# Altium footprint library Integrated circuits.PcbLib: 27 footprints (part 1 of 2)
Each footprint in its own frame and in the unit in brackets; x right, y up, seen from the top. Pads: shape width x height; smd on the part's side, far side on the other; paste and mask are expansions set on the pad; w line width, h text height; cw(c..) or ccw(c..) is an arc to the next point about the centre after c.
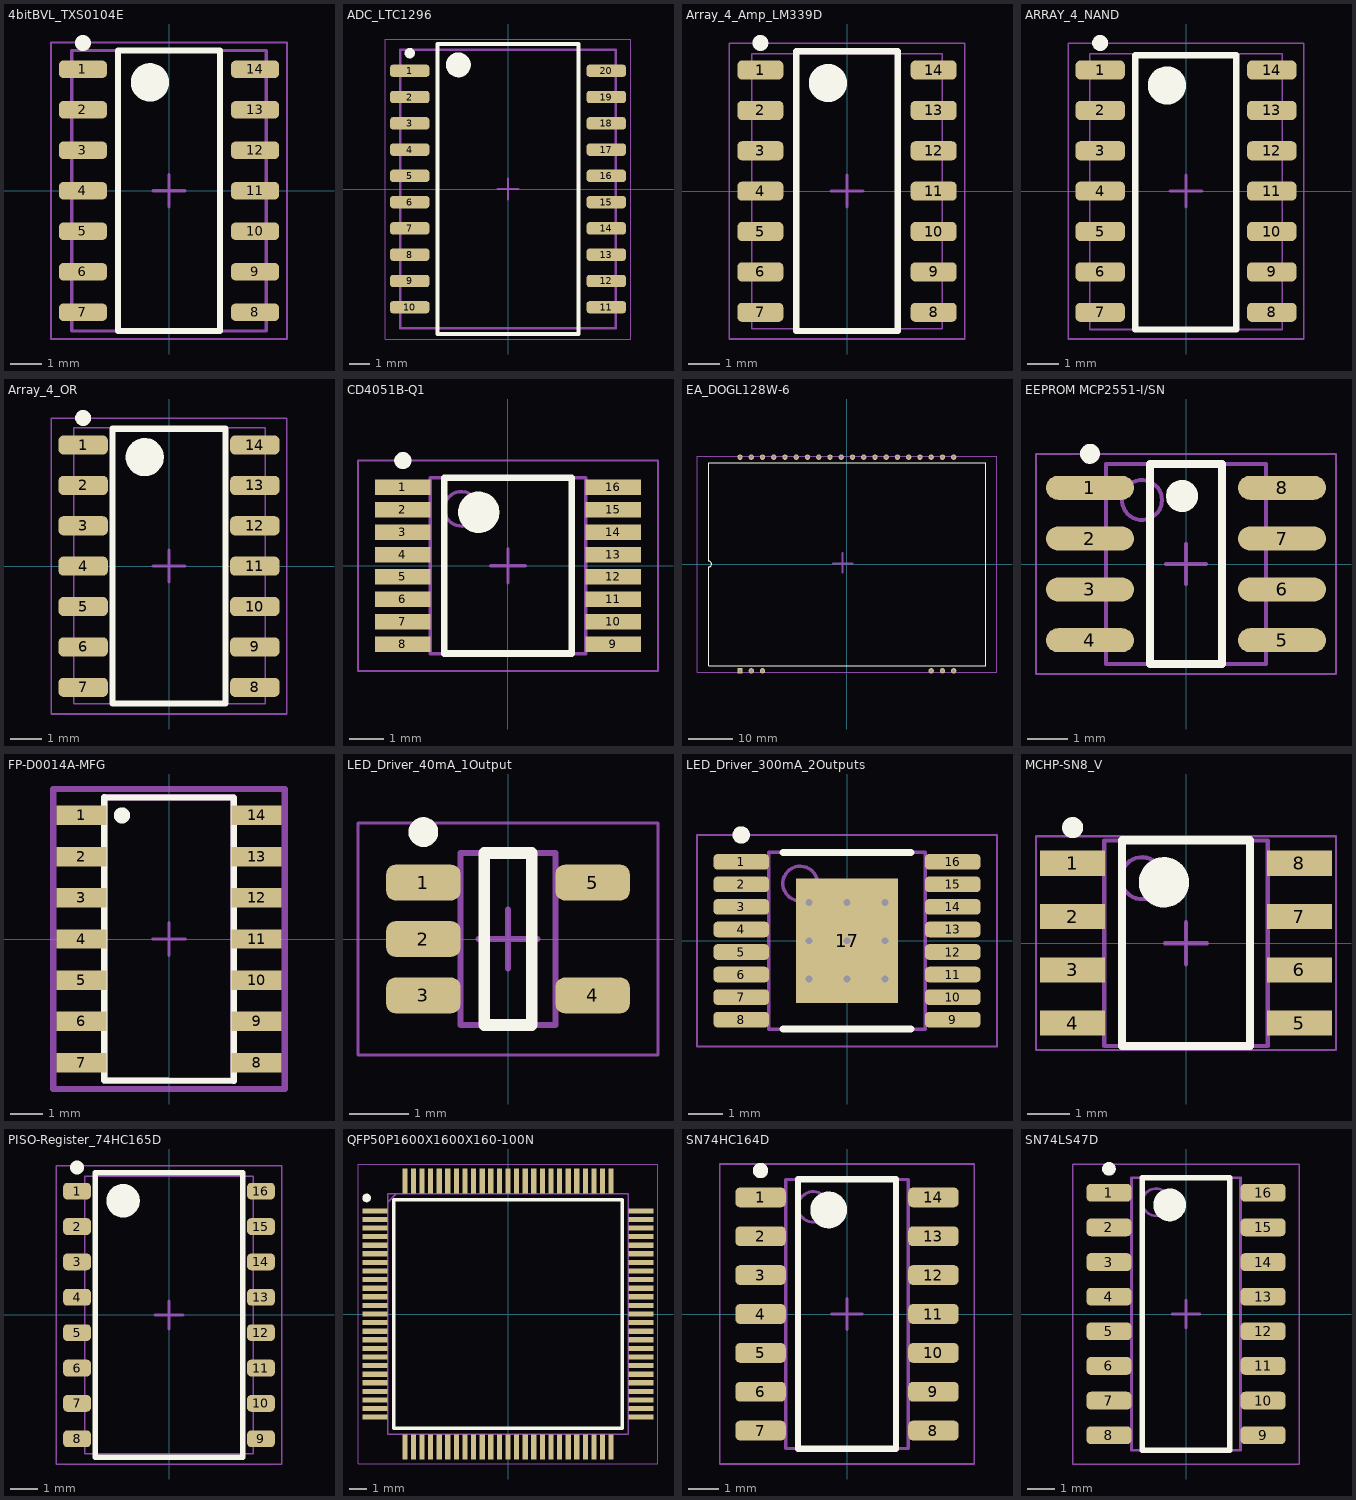
[diagram p0: the footprints below, top view; thin cyan lines are the x and y axes]

## 4bitBVL_TXS0104E [mm] "SOP, 14-Leads, Body 8,65x3,90mm, Pitch 1,27mm, IPC Medium Density"
height 1.75
pads (14):
  rrect50% 1.5x0.55 smd: 1(-2.7,3.81) 2(-2.7,2.54) 3(-2.7,1.27) 4(-2.7,0) 5(-2.7,-1.27) 6(-2.7,-2.54) 7(-2.7,-3.81) 8(2.7,-3.81) 9(2.7,-2.54) 10(2.7,-1.27) 11(2.7,0) 12(2.7,1.27) 13(2.7,2.54) 14(2.7,3.81)
Top Overlay:
  circle w0.25: c-2.7,4.635 r0.125
  circle w0.6: c-0.6,3.4 r0.3
  lines w0.2: -1.6,-4.4 -1.6,4.4 1.6,4.4 1.6,-4.4 -1.6,-4.4
Top Component Outline:
  lines w0.05: -3.7,-4.65 -3.7,4.65 3.7,4.65 3.7,-4.65 -3.7,-4.65
  lines w0.1: -0.5,0 0.5,0 ; 0,-0.5 0,0.5 ; -3.048,-4.4 -3.048,4.4 3.048,4.4 3.048,-4.4 -3.048,-4.4
  text "'.Designator'" at -2.975,-1.767 h0.7
3D body "TXS0104ED.stp": height 1.75, standoff 0, extent -3.013,-4.325 3.013,4.325

## ADC_LTC1296 [mm] "SOIC, 20-Leads, Body 13,30x7,49mm, Pitch 1,27mm, IPC Medium Density"
height 2.65
pads (20):
  rrect50% 1.9x0.6 smd: 1(-4.75,5.715) 2(-4.75,4.445) 3(-4.75,3.175) 4(-4.75,1.905) 5(-4.75,0.635) 6(-4.75,-0.635) 7(-4.75,-1.905) 8(-4.75,-3.175) 9(-4.75,-4.445) 10(-4.75,-5.715) 11(4.75,-5.715) 12(4.75,-4.445) 13(4.75,-3.175) 14(4.75,-1.905) 15(4.75,-0.635) 16(4.75,0.635) 17(4.75,1.905) 18(4.75,3.175) 19(4.75,4.445) 20(4.75,5.715)
Top Overlay:
  circle w0.25: c-4.75,6.565 r0.125
  circle w0.6: c-2.4,6 r0.3
  lines w0.2: -3.4,-7 -3.4,7 3.4,7 3.4,-7 -3.4,-7
Top Component Outline:
  lines w0.05: -5.925,-7.25 -5.925,7.25 5.925,7.25 5.925,-7.25 -5.925,-7.25
  lines w0.1: -0.5,0 0.5,0 ; 0,-0.5 0,0.5 ; -5.207,-6.731 -5.207,6.731 5.207,6.731 5.207,-6.731 -5.207,-6.731
  text "'.Designator'" at -2.794,0.127 h1.52
3D body "LTC1296CCSW#PBF.stp": height 2.65, standoff 0.01, extent -5.163,-6.648 5.163,6.648

## Array_4_Amp_LM339D [mm] "SOIC, 14-Leads, Body 8,65x3,90mm, Pitch 1,27mm, IPC Medium Density"
height 1.75
pads (14):
  rrect50% 1.45x0.6 smd: 1(-2.725,3.81) 2(-2.725,2.54) 3(-2.725,1.27) 4(-2.725,0) 5(-2.725,-1.27) 6(-2.725,-2.54) 7(-2.725,-3.81) 8(2.725,-3.81) 9(2.725,-2.54) 10(2.725,-1.27) 11(2.725,0) 12(2.725,1.27) 13(2.725,2.54) 14(2.725,3.81)
Top Overlay:
  circle w0.25: c-2.725,4.66 r0.125
  circle w0.6: c-0.6,3.4 r0.3
  lines w0.2: -1.6,-4.4 -1.6,4.4 1.6,4.4 1.6,-4.4 -1.6,-4.4
Top Component Outline:
  lines w0.05: -3.7,-4.65 3.7,-4.65 3.7,4.65 -3.7,4.65 -3.7,-4.65 ; -3,-4.325 3,-4.325 3,4.325 -3,4.325 -3,-4.325
  lines w0.1: -0.5,0 0.5,0 ; 0,-0.5 0,0.5
  text "'.Designator'" at -3.8,-1.917 h0.7
3D body "LM339D.stp": height 1.75, standoff 0, extent -3,-4.325 3,4.325

## ARRAY_4_NAND [mm] "SOIC, 14-Leads, Body 8,65x3,90mm, Pitch 1,27mm, IPC Medium Density"
height 1.75
pads (14):
  rrect50% 1.55x0.6 smd: 1(-2.7,3.81) 2(-2.7,2.54) 3(-2.7,1.27) 4(-2.7,0) 5(-2.7,-1.27) 6(-2.7,-2.54) 7(-2.7,-3.81) 8(2.7,-3.81) 9(2.7,-2.54) 10(2.7,-1.27) 11(2.7,0) 12(2.7,1.27) 13(2.7,2.54) 14(2.7,3.81)
Top Overlay:
  circle w0.25: c-2.7,4.66 r0.125
  circle w0.6: c-0.6,3.325 r0.3
  lines w0.2: -1.6,-4.35 -1.6,4.275 1.575,4.275 1.575,-4.35 -1.6,-4.35
Top Component Outline:
  lines w0.05: -3.7,-4.65 -3.7,4.65 3.7,4.65 3.7,-4.65 -3.7,-4.65 ; -3.025,-4.35 -3.025,4.325 3.025,4.325 3.025,-4.35 -3.025,-4.35
  lines w0.1: -0.5,0 0.5,0 ; 0,-0.5 0,0.5
  text "'.Designator'" at -3.475,-1.842 h0.7
3D body "CD4011UBM.stp": height 1.75, standoff 0, extent -3.013,-4.325 3.013,4.325

## Array_4_OR [mm] "SOIC, 14-Leads, Body 8,65x3,90mm, Pitch 1,27mm, IPC Medium Density"
height 1.75
pads (14):
  rrect50% 1.55x0.6 smd: 1(-2.7,3.81) 2(-2.7,2.54) 3(-2.7,1.27) 4(-2.7,0) 5(-2.7,-1.27) 6(-2.7,-2.54) 7(-2.7,-3.81) 8(2.7,-3.81) 9(2.7,-2.54) 10(2.7,-1.27) 11(2.7,0) 12(2.7,1.27) 13(2.7,2.54) 14(2.7,3.81)
Top Overlay:
  circle w0.25: c-2.7,4.66 r0.125
  circle w0.6: c-0.762,3.429 r0.3
  lines w0.2: -1.778,-4.318 -1.778,4.318 1.778,4.318 1.778,-4.318 -1.778,-4.318
Top Component Outline:
  lines w0.05: -3.7,-4.65 -3.7,4.65 3.7,4.65 3.7,-4.65 -3.7,-4.65 ; -3,-4.325 3.025,-4.325 3.025,4.35 -3,4.35 -3,-4.325
  lines w0.1: -0.5,0 0.5,0 ; 0,-0.5 0,0.5
  text "'.Designator'" at -2.9,-1.717 h0.7
3D body "CD4071BM.stp": height 1.76, standoff 0.01, extent -3.013,-4.325 3.013,4.325

## CD4051B-Q1 [mm]
height 1.2
pads (16):
  rect 1.6x0.45 smd: 1(-3.05,2.275) 2(-3.05,1.625) 3(-3.05,0.975) 4(-3.05,0.325) 5(-3.05,-0.325) 6(-3.05,-0.975) 7(-3.05,-1.625) 8(-3.05,-2.275) 9(3.05,-2.275) 10(3.05,-1.625) 11(3.05,-0.975) 12(3.05,-0.325) 13(3.05,0.325) 14(3.05,0.975) 15(3.05,1.625) 16(3.05,2.275)
Top Overlay:
  circle w0.25: c-3.05,3.05 r0.125
  circle w0.6: c-0.85,1.55 r0.3
  lines w0.2: -1.85,-2.55 -1.85,2.55 1.85,2.55 1.85,-2.55 -1.85,-2.55
Top 3D Body:
  circle w0.1: c-1.35,1.65 r0.5
  lines w0.1: -2.25,-2.55 -2.25,2.55 2.25,2.55 2.25,-2.55 -2.25,-2.55
Mechanical 15:
  lines w0.05: -4.35,-3.05 -4.35,3.05 4.35,3.05 4.35,-3.05 -4.35,-3.05
  lines w0.1: -0.5,0 0.5,0 ; 0,-0.5 0,0.5
3D body "SOP127P600-8N.step": height 1.2, standoff 0, extent -3.2,-2.55 3.2,2.55

## EA_DOGL128W-6 [mm]
pads (26):
  rect 1.2x1.2 hole 0.7: 1(-24.13,-24.13)
  round 1.2 hole 0.7: 2(-21.59,-24.13) 3(-19.05,-24.13) 18(19.05,-24.13) 19(21.59,-24.13) 20(24.13,-24.13) 21(24.13,24.13) 22(21.59,24.13) 23(19.05,24.13) 24(16.51,24.13) 25(13.97,24.13) 26(11.43,24.13) 27(8.89,24.13) 28(6.35,24.13) 29(3.81,24.13) 30(1.27,24.13) 31(-1.27,24.13) 32(-3.81,24.13) 33(-6.35,24.13) 34(-8.89,24.13) 35(-11.43,24.13) 36(-13.97,24.13) 37(-16.51,24.13) 38(-19.05,24.13) 39(-21.59,24.13) 40(-24.13,24.13)
Top Overlay:
  lines w0.2: -31.2,-23 -31.2,-0.66 ccw(c-31.2,-0.025) -31.2,0.61 -31.2,22.925 31.4,22.925 31.4,-23 -31.2,-23
Top Component Outline:
  lines w0.05: -33.855,-24.405 33.92,-24.405 33.92,24.395 -33.855,24.395 -33.855,-24.405
  lines w0.5: -3.06,0.112 1.265,0.112 ; -0.955,-1.905 -0.955,2.42
  text "'.Designator'" at -4.355,-14.197 h0.7
3D body "EA_DOGL128W-6.stp": height 2.9, standoff -5, extent -33.9,-24.419 33.9,24.419

## EEPROM MCP2551-I/SN [mm] "SOIC, 8-Leads, Body 4.9x3.9mm, Pitch 1.27mm, IPC Medium Density"
height 1.75
pads (8):
  oval 2.2x0.6 smd: 1(-2.4,1.905) 2(-2.4,0.635) 3(-2.4,-0.635) 4(-2.4,-1.905) 5(2.4,-1.905) 6(2.4,-0.635) 7(2.4,0.635) 8(2.4,1.905)
Top Overlay:
  circle w0.25: c-2.4,2.755 r0.125
  circle w0.4: c-0.1,1.7 r0.2
  lines w0.2: -0.9,-2.5 -0.9,2.5 0.9,2.5 0.9,-2.5 -0.9,-2.5
Top 3D Body:
  circle w0.1: c-1.1,1.6 r0.5
  lines w0.1: -2,-2.5 -2,2.5 2,2.5 2,-2.5 -2,-2.5
Mechanical 15:
  lines w0.05: -3.75,-2.75 -3.75,2.75 3.75,2.75 3.75,-2.75 -3.75,-2.75
  lines w0.1: -0.5,0 0.5,0 ; 0,-0.5 0,0.5
3D body: height 1.75, standoff 0.1, extent -2,-2.5 2,2.5

## FP-D0014A-MFG [mm]
pads (14):
  rect 1.55x0.6 smd paste-1000 mask+0: 1(-2.7,3.81) 2(-2.7,2.54) 3(-2.7,1.27) 4(-2.7,0) 5(-2.7,-1.27) 6(-2.7,-2.54) 7(-2.7,-3.81) 8(2.7,-3.81) 9(2.7,-2.54) 10(2.7,-1.27) 11(2.7,0) 12(2.7,1.27) 13(2.7,2.54) 14(2.7,3.81)
Top Overlay:
  circle w0.25: c-1.45,3.81 r0.125
  lines w0.2: -2,-4.35 -2,4.375 2,4.35 2,-4.378 -2,-4.35
Top Paste:
  rectangle: -3.45,3.535 -1.95,4.085
  rectangle: -3.45,2.265 -1.95,2.815
  rectangle: -3.45,0.995 -1.95,1.545
  rectangle: -3.45,-0.275 -1.95,0.275
  rectangle: -3.45,-1.545 -1.95,-0.995
  rectangle: -3.45,-2.815 -1.95,-2.265
  rectangle: -3.45,-4.085 -1.95,-3.535
  rectangle: 1.95,3.535 3.45,4.085
  rectangle: 1.95,2.265 3.45,2.815
  rectangle: 1.95,0.995 3.45,1.545
  rectangle: 1.95,-0.275 3.45,0.275
  rectangle: 1.95,-1.545 3.45,-0.995
  rectangle: 1.95,-2.815 3.45,-2.265
  rectangle: 1.95,-4.085 3.45,-3.535
Top Assembly:
  lines w0.2: -3.575,-4.625 -3.575,4.625 3.575,4.625 3.575,-4.625 -3.575,-4.625
  text ".Designator" at 0,0.188 h1
Top Courtyard:
  lines w0.2: -3.575,-4.625 -3.575,4.625 3.575,4.625 3.575,-4.625 -3.575,-4.625
Top 3D Body:
  lines w0.2: -2,-4.375 -2,4.375 2,4.375 2,-4.375 -2,-4.375
Top Component Center:
  lines w0.1: -0.5,0 0.5,0 ; 0,-0.5 0,0.5
3D body "IC_Texas_Instruments_OPA4191IDR_eec.STEP": height 0.25, standoff 0, extent -3.575,-4.625 3.575,4.625

## LED_Driver_40mA_1Output [mm] "SOT23, 5-Leads, Body 2,90x2,80mm, Pitch 0,95mm, IPC Low Density"
height 1
pads (5):
  rrect50% 1.25x0.6 smd: 1(-1.425,0.95) 2(-1.425,0) 3(-1.425,-0.95) 4(1.425,-0.95) 5(1.425,0.95)
Top Overlay:
  circle w0.25: c-1.425,1.8 r0.125
  lines w0.2: -0.4,-1.45 -0.4,1.45 0.4,1.45 0.4,-1.45 -0.4,-1.45
Top Component Outline:
  lines w0.05: -2.525,-1.95 2.525,-1.95 2.525,1.95 -2.525,1.95 -2.525,-1.95
  lines w0.1: -0.5,0 0.5,0 ; 0,-0.5 0,0.5 ; -0.8,-1.45 0.8,-1.45 0.8,1.45 -0.8,1.45 -0.8,-1.45
  text "'.Designator'" at -2.425,-0.592 h0.7
3D body "CAT4238TD-GT3.stp": height 1.01, standoff 0.01, extent -1.4,-1.45 1.4,1.45

## LED_Driver_300mA_2Outputs [mm] "TSOP, 16-Leads, Body 5,00x4,40mm, Pitch 0,65mm, Thermal Pad 3,58x2,94mm, IPC Low Density"
height 1.1
pads (17):
  rrect50% 1.6x0.45 smd: 1(-3.05,2.275) 2(-3.05,1.625) 3(-3.05,0.975) 4(-3.05,0.325) 5(-3.05,-0.325) 6(-3.05,-0.975) 7(-3.05,-1.625) 8(-3.05,-2.275) 9(3.05,-2.275) 10(3.05,-1.625) 11(3.05,-0.975) 12(3.05,-0.325) 13(3.05,0.325) 14(3.05,0.975) 15(3.05,1.625) 16(3.05,2.275)
  rect 2.94x3.58 smd: 17(0,0)
via -1.1,1.1 diameter 0.5 hole 0.2
via 0,1.1 diameter 0.5 hole 0.2
via 1.1,1.1 diameter 0.5 hole 0.2
via -1.1,0 diameter 0.5 hole 0.2
via 0,0 diameter 0.5 hole 0.2
via 1.1,0 diameter 0.5 hole 0.2
via -1.1,-1.1 diameter 0.5 hole 0.2
via 0,-1.1 diameter 0.5 hole 0.2
via 1.1,-1.1 diameter 0.5 hole 0.2
Top Overlay:
  circle w0.25: c-3.05,3.05 r0.125
  lines w0.2: -1.85,-2.55 1.85,-2.55 ; -1.85,2.55 1.85,2.55
Top Component Outline:
  circle w0.1: c-1.35,1.65 r0.5
  lines w0.05: -4.325,-3.05 -4.325,3.05 4.325,3.05 4.325,-3.05 -4.325,-3.05
  lines w0.1: -0.5,0 0.5,0 ; 0,-0.5 0,0.5 ; -2.25,-2.55 -2.25,2.55 2.25,2.55 2.25,-2.55 -2.25,-2.55
  text "'.Designator'" at -4.025,-1.767 h0.7
3D body "LT3466EFE#PBF.stp": height 1.11, standoff 0.01, extent -3.171,-2.5 3.229,2.5

## MCHP-SN8_V [mm] "SOIC, 8-Leads, Body 4.9x3.9mm, Pitch 1.27mm"
height 1.75
pads (8):
  rect 1.55x0.6 smd: 1(-2.7,1.905) 2(-2.7,0.635) 3(-2.7,-0.635) 4(-2.7,-1.905) 5(2.7,-1.905) 6(2.7,-0.635) 7(2.7,0.635) 8(2.7,1.905)
Top Overlay:
  circle w0.25: c-2.7,2.755 r0.125
  circle w0.6: c-0.525,1.45 r0.3
  lines w0.2: -1.525,-2.45 -1.525,2.45 1.525,2.45 1.525,-2.45 -1.525,-2.45
Top 3D Body:
  circle w0.1: c-1.05,1.55 r0.5
  lines w0.1: -1.95,-2.45 -1.95,2.45 1.95,2.45 1.95,-2.45 -1.95,-2.45
Mechanical 15:
  lines w0.05: -3.575,-2.55 -3.575,2.55 3.575,2.55 3.575,-2.55 -3.575,-2.55
  lines w0.1: -0.5,0 0.5,0 ; 0,-0.5 0,0.5
3D body "MCHP-SOIC-8_V.step": height 1.75, standoff 0, extent -3,-2.45 3,2.45

## PISO-Register_74HC165D [mm] "SOIC, 16-Leads, Body 9,95x3,90mm, Pitch 1,27mm, IPC Medium Density"
height 1.75
pads (16):
  rrect50% 1x0.6 smd: 1(-3.3,4.445) 2(-3.3,3.175) 3(-3.3,1.905) 4(-3.3,0.635) 5(-3.3,-0.635) 6(-3.3,-1.905) 7(-3.3,-3.175) 8(-3.3,-4.445) 9(3.3,-4.445) 10(3.3,-3.175) 11(3.3,-1.905) 12(3.3,-0.635) 13(3.3,0.635) 14(3.3,1.905) 15(3.3,3.175) 16(3.3,4.445)
Top Overlay:
  circle w0.6: c-1.65,4.1 r0.3
  circle w0.25: c-3.3,5.295 r0.125
  lines w0.2: -2.65,-5.1 2.65,-5.1 2.65,5.1 -2.65,5.1 -2.65,-5.1
Top Component Outline:
  lines w0.05: -4.05,-5.35 -4.05,5.35 4.05,5.35 4.05,-5.35 -4.05,-5.35 ; -3.025,-4.975 3.025,-4.975 3.025,4.975 -3.025,4.975 -3.025,-4.975
  lines w0.1: -0.5,0 0.5,0 ; 0,-0.5 0,0.5
  text "'.Designator'" at -2.9,-1.942 h0.7
3D body "74HC165D,652.stp": height 1.76, standoff 0.01, extent -3,-4.95 3,4.95

## QFP50P1600X1600X160-100N [mm]
pads (100):
  rect 1.475x0.3 smd: 1(-7.738,6) 2(-7.738,5.5) 3(-7.738,5) 4(-7.738,4.5) 5(-7.738,4) 6(-7.738,3.5) 7(-7.738,3) 8(-7.738,2.5) 9(-7.738,2) 10(-7.738,1.5) 11(-7.738,1) 12(-7.738,0.5) 13(-7.738,0) 14(-7.738,-0.5) 15(-7.738,-1) 16(-7.738,-1.5) 17(-7.738,-2) 18(-7.738,-2.5) 19(-7.738,-3) 20(-7.738,-3.5) 21(-7.738,-4) 22(-7.738,-4.5) 23(-7.738,-5) 24(-7.738,-5.5) 25(-7.738,-6) 51(7.738,-6) 52(7.738,-5.5) 53(7.738,-5) 54(7.738,-4.5) 55(7.738,-4) 56(7.738,-3.5) 57(7.738,-3) 58(7.738,-2.5) 59(7.738,-2) 60(7.738,-1.5) 61(7.738,-1) 62(7.738,-0.5) 63(7.738,0) 64(7.738,0.5) 65(7.738,1) 66(7.738,1.5) 67(7.738,2) 68(7.738,2.5) 69(7.738,3) 70(7.738,3.5) 71(7.738,4) 72(7.738,4.5) 73(7.738,5) 74(7.738,5.5) 75(7.738,6)
  rect 0.3x1.475 smd: 26(-6,-7.738) 27(-5.5,-7.738) 28(-5,-7.738) 29(-4.5,-7.738) 30(-4,-7.738) 31(-3.5,-7.738) 32(-3,-7.738) 33(-2.5,-7.738) 34(-2,-7.738) 35(-1.5,-7.738) 36(-1,-7.738) 37(-0.5,-7.738) 38(0,-7.738) 39(0.5,-7.738) 40(1,-7.738) 41(1.5,-7.738) 42(2,-7.738) 43(2.5,-7.738) 44(3,-7.738) 45(3.5,-7.738) 46(4,-7.738) 47(4.5,-7.738) 48(5,-7.738) 49(5.5,-7.738) 50(6,-7.738) 76(6,7.738) 77(5.5,7.738) 78(5,7.738) 79(4.5,7.738) 80(4,7.738) 81(3.5,7.738) 82(3,7.738) 83(2.5,7.738) 84(2,7.738) 85(1.5,7.738) 86(1,7.738) 87(0.5,7.738) 88(0,7.738) 89(-0.5,7.738) 90(-1,7.738) 91(-1.5,7.738) 92(-2,7.738) 93(-2.5,7.738) 94(-3,7.738) 95(-3.5,7.738) 96(-4,7.738) 97(-4.5,7.738) 98(-5,7.738) 99(-5.5,7.738) 100(-6,7.738)
Top Overlay:
  circle w0.25: c-8.225,6.75 r0.125
  lines w0.2: -6.65,-6.65 -6.65,6.65 6.65,6.65 6.65,-6.65 -6.65,-6.65
Mechanical 15:
  lines w0.1: -7,6.5 -6.5,7 ; -7,-7 -7,7 7,7 7,-7 -7,-7
Mechanical 20:
  lines w0.05: -8.725,-8.725 -8.725,8.725 8.725,8.725 8.725,-8.725 -8.725,-8.725

## SN74HC164D [mm] "SOIC, 14-Leads, Body 8,65x3,90mm, Pitch 1,27mm, IPC Low Density"
height 1.75
pads (14):
  rrect50% 1.65x0.65 smd: 1(-2.825,3.81) 2(-2.825,2.54) 3(-2.825,1.27) 4(-2.825,0) 5(-2.825,-1.27) 6(-2.825,-2.54) 7(-2.825,-3.81) 8(2.825,-3.81) 9(2.825,-2.54) 10(2.825,-1.27) 11(2.825,0) 12(2.825,1.27) 13(2.825,2.54) 14(2.825,3.81)
Top Overlay:
  circle w0.6: c-0.6,3.4 r0.3
  circle w0.25: c-2.825,4.685 r0.125
  lines w0.2: -1.6,-4.4 1.6,-4.4 1.6,4.4 -1.6,4.4 -1.6,-4.4
Top Component Outline:
  circle w0.1: c-1.1,3.5 r0.5
  lines w0.05: -4.15,-4.9 4.15,-4.9 4.15,4.9 -4.15,4.9 -4.15,-4.9
  lines w0.1: -0.5,0 0.5,0 ; 0,-0.5 0,0.5 ; -2,-4.4 2,-4.4 2,4.4 -2,4.4 -2,-4.4
  text "'.Designator'" at -4,-1.992 h0.7
3D body "SN74HC164DT.stp": height 1.75, standoff 0, extent -3.013,-4.325 3.013,4.325

## SN74LS47D [mm] "SOIC, 16-Leads, Body 9,90x3,90mm, Pitch 1,27mm, IPC Low Density"
height 1.75
pads (16):
  rrect50% 1.65x0.65 smd: 1(-2.825,4.445) 2(-2.825,3.175) 3(-2.825,1.905) 4(-2.825,0.635) 5(-2.825,-0.635) 6(-2.825,-1.905) 7(-2.825,-3.175) 8(-2.825,-4.445) 9(2.825,-4.445) 10(2.825,-3.175) 11(2.825,-1.905) 12(2.825,-0.635) 13(2.825,0.635) 14(2.825,1.905) 15(2.825,3.175) 16(2.825,4.445)
Top Overlay:
  circle w0.6: c-0.6,4 r0.3
  circle w0.25: c-2.825,5.32 r0.125
  lines w0.2: -1.6,-5 1.6,-5 1.6,5 -1.6,5 -1.6,-5
Top Component Outline:
  circle w0.1: c-1.1,4.1 r0.5
  lines w0.05: -4.15,-5.5 4.15,-5.5 4.15,5.5 -4.15,5.5 -4.15,-5.5
  lines w0.1: -0.5,0 0.5,0 ; 0,-0.5 0,0.5 ; -2,-5 2,-5 2,5 -2,5 -2,-5
  text "'.Designator'" at -3.875,-1.642 h0.7
3D body "SN74LS47DE4.stp": height 1.75, standoff 0, extent -3.013,-4.95 3.013,4.95